# Altium footprint library SparkFun-Sensors.PCBLIB: 104 footprints (part 6 of 7)
Each footprint in its own frame and in the unit in brackets; x right, y up, seen from the top. Pads: shape width x height; smd on the part's side, far side on the other; paste and mask are expansions set on the pad; w line width, h text height; cw(c..) or ccw(c..) is an arc to the next point about the centre after c.
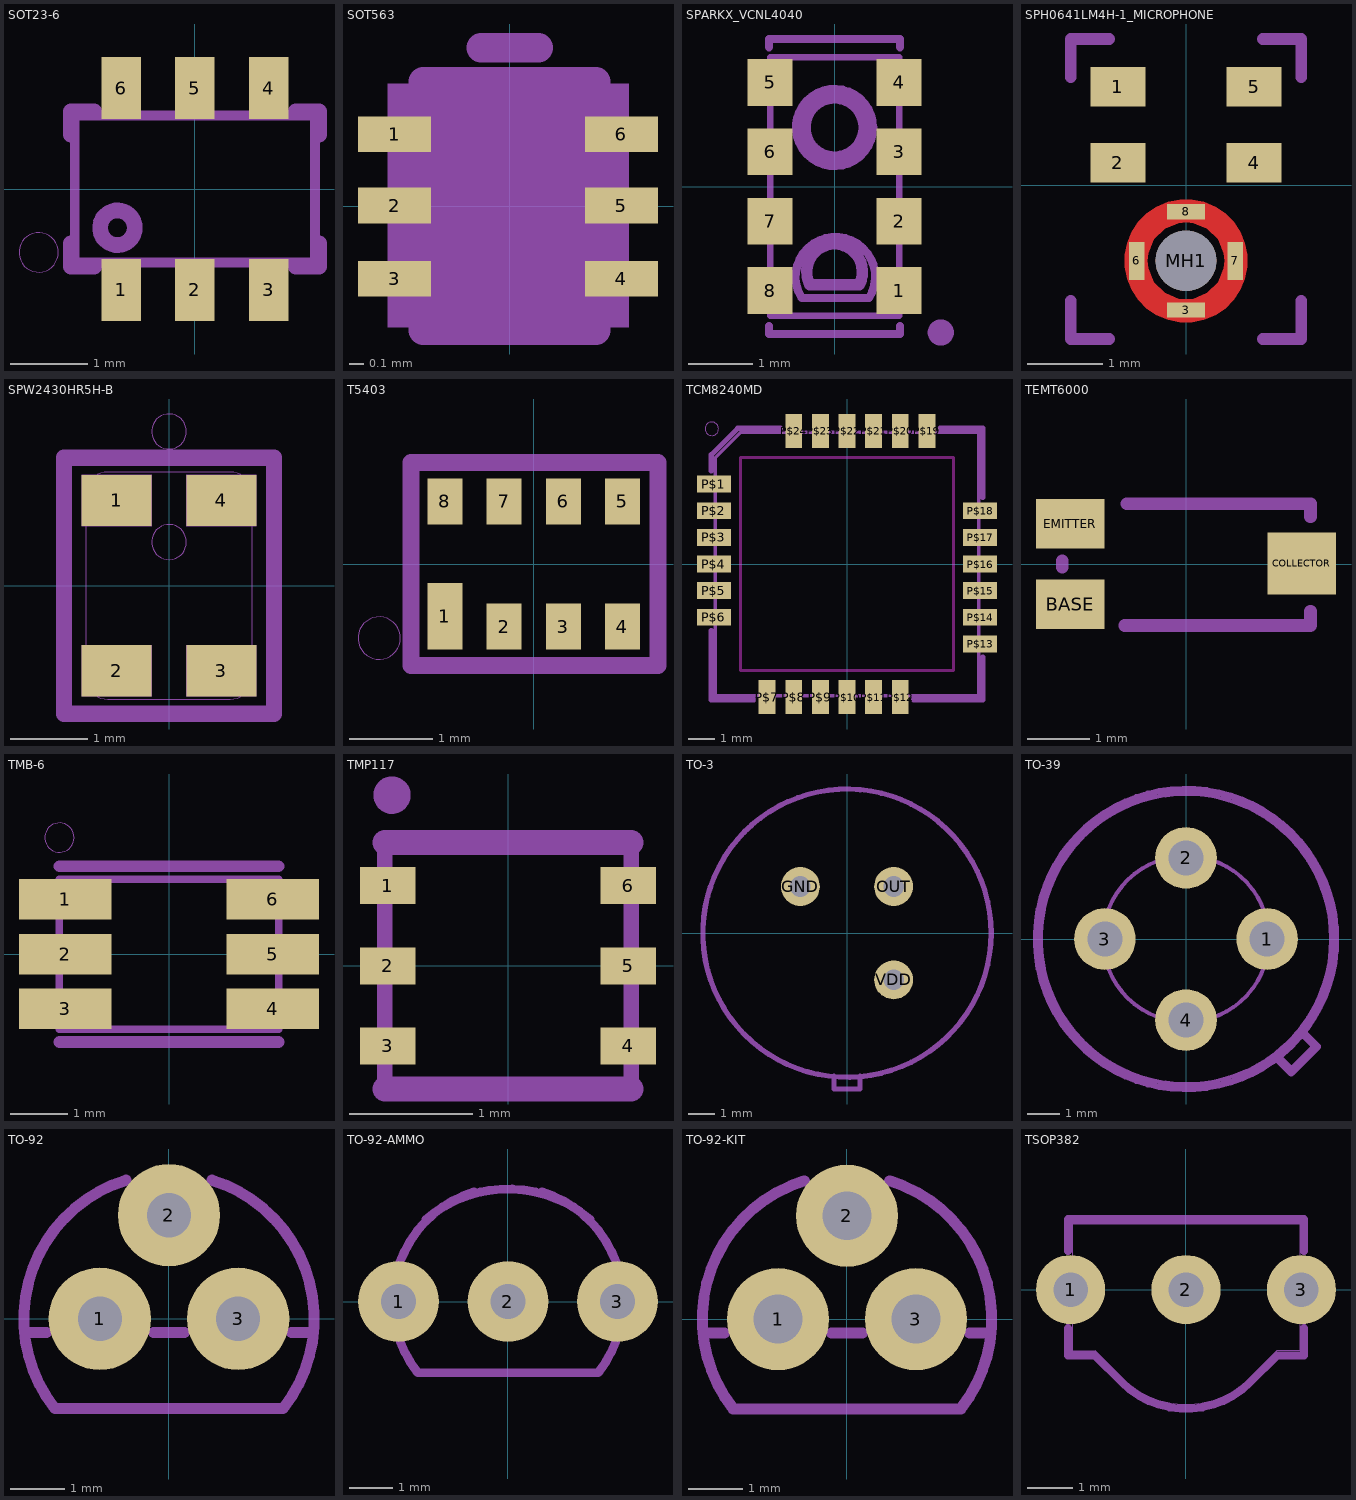
[diagram p5: the footprints below, top view; thin cyan lines are the x and y axes]

## SOT23-6 [mil]
pads (6):
  rect 20.08x31.5 smd: 1(-37.4,-51.18) 2(0,-51.18) 3(37.4,-51.18) 4(37.4,51.18) 5(0,51.18) 6(-37.4,51.18)
tDocu:
  circle w8: c-39.37,-19.69 r8.8
  lines w5: -61.02,-37.4 -61.02,37.4 61.02,37.4 61.02,-37.4 -61.02,-37.4
tPlace:
  circle w0: c-79.37,-32.19 r10
  lines w8: -62.99,-27.56 -62.99,-39.37 -51.18,-39.37 ; -62.99,27.56 -62.99,39.37 -51.18,39.37 ; 51.18,-39.37 62.99,-39.37 62.99,-27.56 ; 51.18,39.37 62.99,39.37 62.99,27.56

## SOT563 [mil]
pads (6):
  rect 20x9.8 smd: 1(-31.5,19.61) 2(-31.5,0.13) 3(-31.5,-19.92) 4(30.57,-19.92) 5(30.57,0.13) 6(30.57,19.61)
tPlace:
  lines w8: -23.62,-34 23.62,-34 ; -23.62,34 23.62,34 ; -7.87,43.31 7.87,43.31
Reference:
  lines w0: -33.02,5.46 31.98,5.46
Mech68:
  drawing of 504 lines, arcs and shapes, not listed
Mech69:
  drawing of 760 lines, arcs and shapes, not listed

## SPARKX_VCNL4040 [mm]
pads (8):
  rect 0.7x0.725 smd: 1(1,-1.612) 2(1,-0.537) 3(1,0.537) 4(1,1.612) 5(-1,1.612) 6(-1,0.537) 7(-1,-0.537) 8(-1,-1.612)
tDocu:
  circle w0.127: c0,0.914 r0.598
  lines w0.1: -1,-2 1,-2 1,2 -1,2 -1,-2
  lines w0.127: 0.508,-1.727 -0.508,-1.727 cw(c0.013,-1.397) 0.533,-1.727
tPlace:
  circle w0.203: c1.646,-2.261 r0.102
  circle w0.178: c0,0.914 r0.458
  lines w0.127: -1.016,-2.159 -1.016,-2.286 1.016,-2.286 1.016,-2.159 ; -1.016,2.159 -1.016,2.286 1.016,2.286 1.016,2.159
  lines w0.178: -0.381,-1.524 0.381,-1.524 ccw(c0,-1.321) -0.381,-1.524

## SPH0641LM4H-1_MICROPHONE [mm]
pads (9):
  rect 0.725x0.522 smd: 1(-0.9,1.3) 2(-0.9,0.3) 4(0.9,0.3) 5(0.9,1.3)
  rect 0.5x0.2 smd: 3(0,-1.65) 8(0,-0.35)
  rect 0.2x0.5 smd: 6(-0.65,-1) 7(0.65,-1)
  round 0.8 hole 0.8 unplated: MH1(0,-1)
Top:
  region: -0.51,-1 -0.5,-0.9 -0.424,-0.717 -0.283,-0.576 -0.1,-0.5 0,-0.49 0,-0.19 -0.08,-0.19 -0.236,-0.221 -0.384,-0.282 -0.516,-0.371 -0.629,-0.484 -0.718,-0.616 -0.779,-0.764 -0.81,-0.92 -0.81,-1
  region: 0,-1.51 -0.1,-1.5 -0.283,-1.424 -0.424,-1.283 -0.5,-1.099 -0.51,-1 -0.81,-1 -0.81,-1.08 -0.779,-1.236 -0.718,-1.384 -0.629,-1.516 -0.516,-1.629 -0.384,-1.718 -0.236,-1.779 -0.08,-1.81 0,-1.81
  region: 0.51,-1 0.5,-1.099 0.424,-1.283 0.283,-1.424 0.1,-1.5 0,-1.51 0,-1.81 0.08,-1.81 0.236,-1.779 0.384,-1.718 0.516,-1.629 0.629,-1.516 0.718,-1.384 0.779,-1.236 0.81,-1.08 0.81,-1
  region: 0,-0.49 0.1,-0.5 0.283,-0.576 0.424,-0.717 0.5,-0.9 0.51,-1 0.81,-1 0.81,-0.92 0.779,-0.764 0.718,-0.616 0.629,-0.484 0.516,-0.371 0.384,-0.282 0.236,-0.221 0.08,-0.19 0,-0.19
Top Paste:
  region: -0.44,-1.652 -0.343,-1.72 -0.118,-1.791 0.118,-1.791 0.343,-1.72 0.44,-1.652 0.3,-1.445 0.231,-1.486 0.08,-1.533 -0.08,-1.533 -0.231,-1.486 -0.3,-1.445
  region: -0.44,-1.652 -0.343,-1.72 -0.118,-1.791 0.118,-1.791 0.343,-1.72 0.44,-1.652 0.3,-1.445 0.231,-1.486 0.08,-1.533 -0.08,-1.533 -0.231,-1.486 -0.3,-1.445
  region: -0.44,-1.652 -0.343,-1.72 -0.118,-1.791 0.118,-1.791 0.343,-1.72 0.44,-1.652 0.3,-1.445 0.231,-1.486 0.08,-1.533 -0.08,-1.533 -0.231,-1.486 -0.3,-1.445
  region: -0.44,-1.652 -0.343,-1.72 -0.118,-1.791 0.118,-1.791 0.343,-1.72 0.44,-1.652 0.3,-1.445 0.231,-1.486 0.08,-1.533 -0.08,-1.533 -0.231,-1.486 -0.3,-1.445
  region: -0.44,-1.652 -0.343,-1.72 -0.118,-1.791 0.118,-1.791 0.343,-1.72 0.44,-1.652 0.3,-1.445 0.231,-1.486 0.08,-1.533 -0.08,-1.533 -0.231,-1.486 -0.3,-1.445
  region: -0.44,-1.652 -0.343,-1.72 -0.118,-1.791 0.118,-1.791 0.343,-1.72 0.44,-1.652 0.3,-1.445 0.231,-1.486 0.08,-1.533 -0.08,-1.533 -0.231,-1.486 -0.3,-1.445
  region: -0.44,-1.652 -0.343,-1.72 -0.118,-1.791 0.118,-1.791 0.343,-1.72 0.44,-1.652 0.3,-1.445 0.231,-1.486 0.08,-1.533 -0.08,-1.533 -0.231,-1.486 -0.3,-1.445
  region: 0.652,-1.44 0.72,-1.343 0.791,-1.118 0.791,-0.882 0.72,-0.657 0.652,-0.56 0.445,-0.7 0.486,-0.769 0.534,-0.92 0.534,-1.08 0.486,-1.231 0.445,-1.3
  region: -0.652,-0.56 -0.72,-0.657 -0.791,-0.882 -0.791,-1.118 -0.72,-1.343 -0.652,-1.44 -0.445,-1.3 -0.486,-1.231 -0.534,-1.08 -0.534,-0.92 -0.486,-0.769 -0.445,-0.7
  region: 0.44,-0.348 0.343,-0.28 0.118,-0.209 -0.118,-0.209 -0.343,-0.28 -0.44,-0.348 -0.3,-0.555 -0.231,-0.514 -0.08,-0.466 0.08,-0.466 0.231,-0.514 0.3,-0.555
Top Solder:
  circle w0.6: c0,-1 r0.662
tPlace:
  lines w0.152: -1.524,-1.524 -1.524,-2.032 -1.016,-2.032 ; -1.524,1.424 -1.524,1.932 -1.016,1.932 ; 1.016,-2.032 1.524,-2.032 1.524,-1.524 ; 1.016,1.932 1.524,1.932 1.524,1.424

## SPW2430HR5H-B [mm]
pads (4):
  rect 0.9x0.66 smd: 1(-0.675,1.095) 2(-0.675,-1.095) 3(0.675,-1.095) 4(0.675,1.095)
tDocu:
  region: -1.125,0.765 -1.125,1.425 -0.225,1.425 -0.225,0.765
  region: 1.125,-0.765 1.125,-1.425 0.225,-1.425 0.225,-0.765
  region: 1.125,1.425 1.125,0.765 0.225,0.765 0.225,1.425
  region: -1.125,-1.425 -1.125,-0.765 -0.225,-0.765 -0.225,-1.425
  lines w0.003: -1.25,-1.55 -1.25,1.55 1.25,1.55 1.25,-1.55 -1.25,-1.55 ; -1.07,-1.18 -1.07,1.18 cw(c-0.79,1.18) -0.79,1.46 0.79,1.46 cw(c0.79,1.18) 1.07,1.18 1.07,-1.18 cw(c0.79,-1.18) 0.79,-1.46 -0.79,-1.46 cw(c-0.79,-1.18) -1.07,-1.18
tPlace:
  circle w0: c0,0.56 r0.225
  circle w0: c0,1.982 r0.225
  lines w0.203: -1.352,-1.652 -1.352,1.652 1.352,1.652 1.352,-1.652 -1.352,-1.652

## T5403 [mil]
pads (8):
  rect 16.54x31.5 smd: 1(-41.93,-24.61)
  rect 16.54x21.65 smd: 2(-13.98,-29.53) 3(13.98,-29.53) 4(41.93,-29.53) 5(41.93,29.53) 6(13.98,29.53) 7(-13.98,29.53) 8(-41.93,29.53)
tPlace:
  circle w0: c-73,-35 r10
  lines w8: -58,-48 -58,48 58.72,48 58.72,-48 -58,-48

## TCM8240MD [mm]
pads (24):
  rect 1.27x0.635 smd: P$1(-5,3) P$2(-5,2) P$3(-5,1) P$4(-5,0) P$5(-5,-1) P$6(-5,-2) P$13(5,-3) P$14(5,-2) P$15(5,-1) P$16(5,0) P$17(5,1) P$18(5,2)
  rect 0.635x1.27 smd: P$7(-3,-5) P$8(-2,-5) P$9(-1,-5) P$10(0,-5) P$11(1,-5) P$12(2,-5) P$19(3,5) P$20(2,5) P$21(1,5) P$22(0,5) P$23(-1,5) P$24(-2,5)
Top keep-out:
  lines w0.127: -4,-4 4,-4 ; -4,-4 -4,4 ; -4,-4 4,-4 ; -4,-4 -4,4 ; -4,4 4,4 ; -4,4 4,4 ; 4,-4 4,4 ; 4,-4 4,4
tDocu:
  lines w0.127: -4.95,-4.95 4.95,-4.95 4.95,4.95 -4,4.95 -4.95,4 -4.95,-4.95
tPlace:
  circle w0: c-5.08,5.08 r0.254
  lines w0.203: -5.1,-2.5 -5.1,-5.1 -3.5,-5.1 ; -5.1,3.5 -5.1,4.1 -4.1,5.1 -2.5,5.1 ; 2.5,-5.1 5.1,-5.1 5.1,-3.5 ; 3.5,5.1 5.1,5.1 5.1,2.5

## TEMT6000 [mm]
pads (3):
  rect 1.1x0.8 smd: BASE(-1.87,-0.65) EMITTER(-1.87,0.65)
  rect 1.1x1 smd: COLLECTOR(1.86,0.01)
tPlace:
  lines w0.203: -2,-0.05 -2,0.05 ; -0.99,-0.99 2,-0.99 2,-0.76 ; -0.96,0.97 2,0.97 2,0.76

## TMB-6 [mm]
pads (6):
  rect 1.6x0.7 smd: 1(-1.8,0.95) 2(-1.8,0) 3(-1.8,-0.95) 4(1.8,-0.95) 5(1.8,0) 6(1.8,0.95)
tDocu:
  lines w0.127: -1.9,-1.3 -1.9,1.3 1.9,1.3 1.9,-1.3 -1.9,-1.3
tPlace:
  circle w0: c-1.9,2.021 r0.254
  lines w0.203: -1.9,-1.524 1.9,-1.524 ; -1.9,1.524 1.9,1.524

## TMP117 [mm]
pads (6):
  rect 0.45x0.3 smd: 1(-0.975,0.65) 2(-0.975,0) 3(-0.975,-0.65) 4(0.975,-0.65) 5(0.975,0) 6(0.975,0.65)
tDocu:
  lines w0.127: -1,-1 -1,1 1,1 1,-1 -1,-1
tPlace:
  circle w0.203: c-0.942,1.385 r0.05
  lines w0.203: -1,-1 1,-1 ; -1,1 1,1

## TO-3 [mil]
pads (3):
  round 59.06 hole 31.5: GND(-70.71,70.71) OUT(70.71,70.71) VDD(70.71,-70.71)
Bottom Solder:
  circle w33.46: c-70.71,70.71 r16.73
  circle w33.46: c70.71,-70.71 r16.73
  circle w33.46: c70.71,70.71 r16.73
tPlace:
  circle w8: c0,0 r218.5
  lines w8: -19.69,-216.54 -19.69,-236.22 19.69,-236.22 19.69,-216.54

## TO-39 [mil]
pads (4):
  round 76 hole 43.31: 1(100,0) 2(0,100) 3(-100,0) 4(0,-100)
Bottom Solder:
  circle w0: c-100,0 r40
  circle w0: c100,0 r40
  circle w0: c0,-100 r40
  circle w0: c0,100 r40
tDocu:
  circle w5: c0,0 r102.36
  circle w5: c0,0 r179.13
  lines w5: 112.16,-141.15 128.87,-157.86 ; 130.26,-159.25 156.7,-132.8 ; 138.61,-114.71 155.31,-131.41
tPlace:
  circle w8: c0,0 r185
  lines w8: 112.16,-148.15 129.87,-165.86 ; 130.26,-165.25 162.7,-132.8 ; 145.61,-115.71 162.31,-132.41

## TO-92 [mil]
pads (3):
  round 74 hole 32: 1(-50,0) 2(0,75) 3(50,0)
tPlace:
  lines w8: -104.52,-10 -88.73,-10 ; -30.96,100.33 ccw(c0,0) -82.46,-65 82.46,-65 ccw(c0,0) 30.96,100.33 ; -11.27,-10 11.27,-10 ; 88.73,-10 104.52,-10

## TO-92-AMMO [mil]
pads (3):
  round 74 hole 32: 1(-100,0) 2(0,0) 3(100,0)
tPlace:
  lines w8: -75,75 cw(c0,-12.5) 25,100 ; -30.96,100.33 ccw(c0,0) -82.46,-65 82.46,-65 ccw(c0,0) 30.96,100.33 ; -25,100 cw(c0,-12.5) 25,100 ; 75,75 ccw(c0,-12.5) 25,100

## TO-92-KIT [mil]
pads (3):
  round 74 hole 35.43: 1(-50,0) 2(0,75) 3(50,0)
Top Solder:
  region: -50,-17.5 -53.4,-17.58 -59.75,-15.12 -64.67,-10.43 -67.42,-4.2 -67.5,-0.8 -67.59,2.77 -65.02,9.44 -60.1,14.61 -53.57,17.51 -50,17.6 -46.48,17.54 -40.02,14.74 -35.12,9.67 -32.54,3.12 -32.6,-0.4 -32.63,-3.83 -35.31,-10.15 -40.21,-14.96 -46.57,-17.53 -50,-17.5
  region: 50,-17.5 46.6,-17.58 40.25,-15.12 35.33,-10.43 32.58,-4.2 32.5,-0.8 32.41,2.77 34.98,9.44 39.9,14.61 46.43,17.51 50,17.6 53.52,17.54 59.98,14.74 64.88,9.67 67.46,3.12 67.4,-0.4 67.37,-3.83 64.69,-10.15 59.79,-14.96 53.43,-17.53 50,-17.5
  region: 0,57.5 -3.4,57.42 -9.75,59.88 -14.67,64.57 -17.42,70.8 -17.5,74.2 -17.59,77.77 -15.02,84.44 -10.1,89.61 -3.57,92.51 0,92.6 3.52,92.54 9.98,89.74 14.88,84.67 17.46,78.12 17.4,74.6 17.37,71.17 14.69,64.85 9.79,60.04 3.43,57.47 0,57.5
Bottom Solder:
  region: -49.9,-37.5 -53.55,-37.55 -60.74,-36.22 -67.53,-33.51 -73.66,-29.54 -78.9,-24.44 -83.04,-18.42 -85.93,-11.7 -87.45,-4.55 -87.5,-0.9 -87.54,2.84 -86.17,10.19 -83.4,17.13 -79.32,23.39 -74.09,28.74 -67.93,32.97 -61.05,35.91 -53.74,37.46 -50,37.5 -46.26,37.45 -38.95,35.88 -32.09,32.92 -25.93,28.68 -20.72,23.31 -16.66,17.04 -13.9,10.09 -12.55,2.74 -12.6,-1 -12.64,-4.63 -14.13,-11.75 -16.99,-18.43 -21.09,-24.44 -26.29,-29.52 -32.37,-33.49 -39.12,-36.2 -46.27,-37.54 -49.9,-37.5
  region: 50.1,-37.5 46.45,-37.55 39.26,-36.22 32.47,-33.51 26.34,-29.54 21.1,-24.44 16.96,-18.42 14.07,-11.7 12.55,-4.55 12.5,-0.9 12.46,2.84 13.83,10.19 16.6,17.13 20.68,23.39 25.91,28.74 32.07,32.97 38.95,35.91 46.26,37.46 50,37.5 53.74,37.45 61.05,35.88 67.91,32.92 74.07,28.68 79.28,23.31 83.34,17.04 86.1,10.09 87.45,2.74 87.4,-1 87.36,-4.63 85.87,-11.75 83.01,-18.43 78.91,-24.44 73.71,-29.52 67.63,-33.49 60.88,-36.2 53.73,-37.54 50.1,-37.5
  region: 0.1,37.5 -3.55,37.45 -10.74,38.78 -17.53,41.49 -23.66,45.46 -28.9,50.56 -33.04,56.58 -35.93,63.3 -37.45,70.45 -37.5,74.1 -37.54,77.84 -36.17,85.19 -33.4,92.13 -29.32,98.39 -24.09,103.74 -17.93,107.97 -11.05,110.91 -3.74,112.46 0,112.5 3.74,112.45 11.05,110.88 17.91,107.92 24.07,103.68 29.28,98.31 33.34,92.04 36.1,85.09 37.45,77.74 37.4,74 37.36,70.37 35.87,63.25 33.01,56.57 28.91,50.56 23.71,45.48 17.63,41.51 10.88,38.8 3.73,37.46 0.1,37.5
tPlace:
  lines w8: -104.52,-10 -88.73,-10 ; -30.96,100.33 ccw(c0,0) -82.46,-65 82.46,-65 ccw(c0,0) 30.96,100.33 ; -11.27,-10 11.27,-10 ; 88.73,-10 104.52,-10

## TSOP382 [mil]
pads (3):
  round 60 hole 30: 1(-100,0) 2(0,0) 3(100,0)
tDocu:
  lines w0.1: -98.43,-53.15 -98.43,57.09 98.43,57.09 98.43,-53.15 78.74,-53.15 55.68,-76.21 cw(c0,-20.53) -55.68,-76.21 -78.74,-53.15 -98.43,-53.15
tPlace:
  lines w7: -102.36,-33.46 -102.36,-57.09 -78.74,-57.09 -55.68,-80.15 ccw(c0,-24.47) 55.68,-80.15 78.74,-57.09 102.36,-57.09 102.36,-33.46 ; -102.36,33.46 -102.36,61.02 102.36,61.02 102.36,33.46